# Altium footprint library DIODES_PKG_SOT363.PcbLib: 1 footprints
Each footprint in its own frame and in the unit in brackets; x right, y up, seen from the top. Pads: shape width x height; smd on the part's side, far side on the other; paste and mask are expansions set on the pad; w line width, h text height; cw(c..) or ccw(c..) is an arc to the next point about the centre after c.
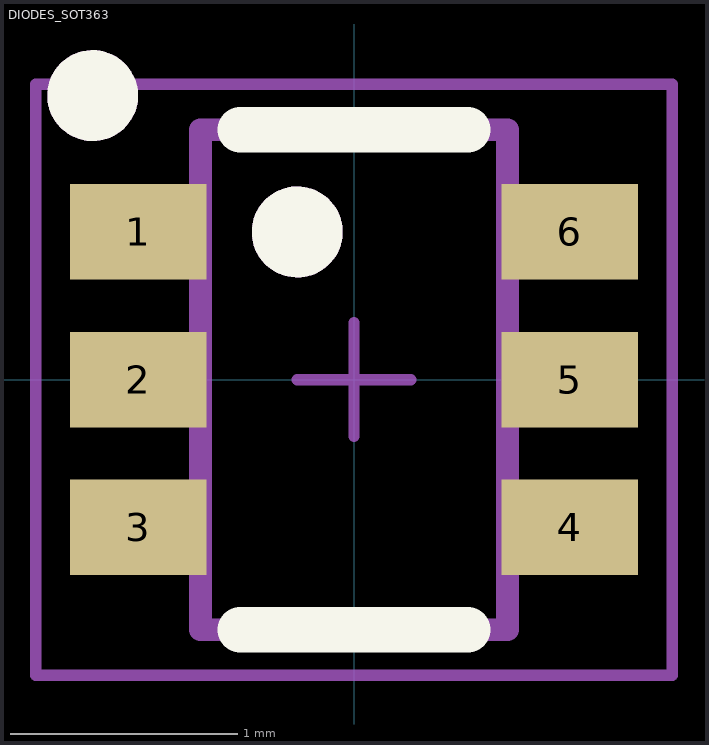
[diagram p0: the footprint, top view; thin cyan lines are the x and y axes]

## DIODES_SOT363 [mm] "DIODES_SOT363"
height 1.1
pads (6):
  rect 0.6x0.42 smd mask+0.05: 1(-0.95,0.65) 2(-0.95,0) 3(-0.95,-0.65) 4(0.95,-0.65) 5(0.95,0) 6(0.95,0.65)
Top Overlay:
  circle w0.2: c-0.25,0.65 r0.1
  circle w0.2: c-1.15,1.25 r0.1
  lines w0.2: -0.5,-1.1 0.5,-1.1 ; -0.5,1.1 0.5,1.1
Mechanical 13:
  circle w0.2: c-0.25,0.65 r0.1
  circle w0.2: c-1.15,1.25 r0.1
  lines w0.1: -0.675,-1.1 -0.675,1.1 0.675,1.1 0.675,-1.1 -0.675,-1.1
Mechanical 15:
  lines w0.05: -0.25,0 0.25,0 ; 0,-0.25 0,0.25 ; -1.4,-1.3 -1.4,1.3 1.4,1.3 1.4,-1.3 -1.4,-1.3
3D body "DIODES_SOT363.stp": height 1.11, standoff 0.02, extent -1.05,-1.075 1.05,1.075